# EAGLE library part ATARI_TIA (library tiny_stella)
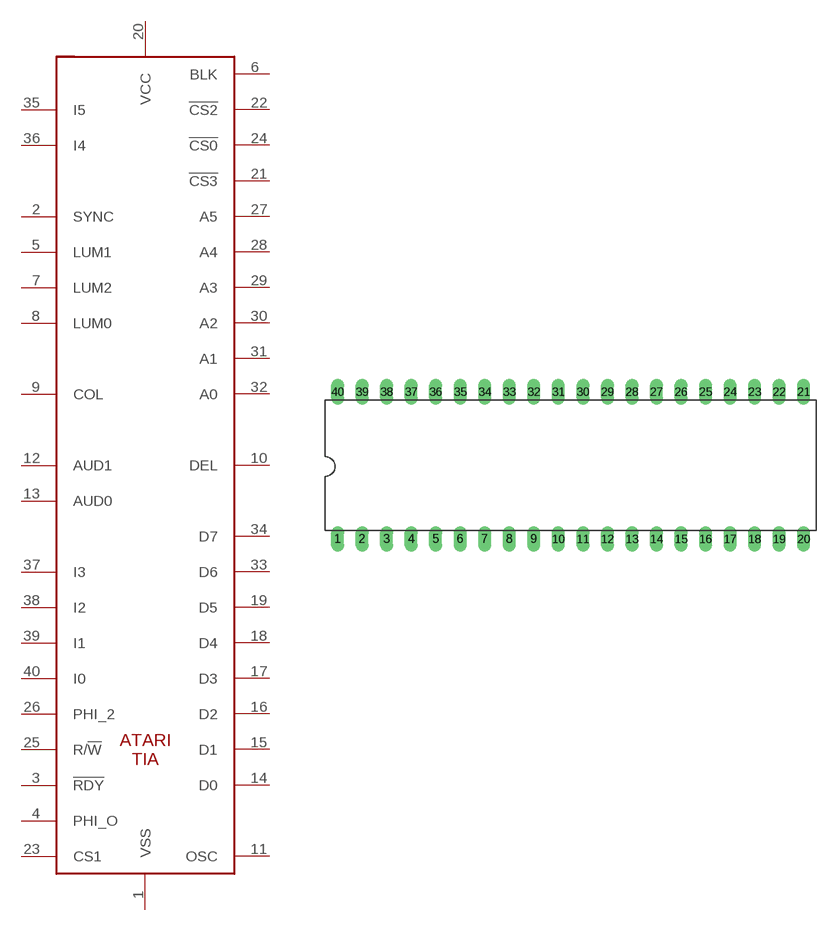
[diagram p2: symbol with the pads of DIL40; footprint DIL40]

Designator prefix -

## ATARI_TIA  [DIL40]
1  VSS
2  SYNC
3  !RDY
4  PHI_O
5  LUM1
6  BLK
7  LUM2
8  LUM0
9  COL
10  DEL
11  OSC
12  AUD1
13  AUD0
14  D0
15  D1
16  D2
17  D3
18  D4
19  D5
20  VCC
21  !CS3
22  !CS2
23  CS1
24  !CS0
25  R/!W
26  PHI_2
27  A5
28  A4
29  A3
30  A2
31  A1
32  A0
33  D6
34  D7
35  I5
36  I4
37  I3
38  I2
39  I1
40  I0

## Footprint DIL40 (pad centres in mm)
Dual In Line Package
drill 0.813 long: 1 -24.13,-7.62; 2 -21.59,-7.62; 3 -19.05,-7.62; 4 -16.51,-7.62; 5 -13.97,-7.62; 6 -11.43,-7.62; 7 -8.89,-7.62; 8 -6.35,-7.62; 9 -3.81,-7.62; 10 -1.27,-7.62; 11 1.27,-7.62; 12 3.81,-7.62; 13 6.35,-7.62; 14 8.89,-7.62; 15 11.43,-7.62; 16 13.97,-7.62; 17 16.51,-7.62; 18 19.05,-7.62; 19 21.59,-7.62; 20 24.13,-7.62; 21 24.13,7.62; 22 21.59,7.62; 23 19.05,7.62; 24 16.51,7.62; 25 13.97,7.62; 26 11.43,7.62; 27 8.89,7.62; 28 6.35,7.62; 29 3.81,7.62; 30 1.27,7.62; 31 -1.27,7.62; 32 -3.81,7.62; 33 -6.35,7.62; 34 -8.89,7.62; 35 -11.43,7.62; 36 -13.97,7.62; 37 -16.51,7.62; 38 -19.05,7.62; 39 -21.59,7.62; 40 -24.13,7.62